# Altium footprint library PcbLib1.PcbLib: 6 footprints
Each footprint in its own frame and in the unit in brackets; x right, y up, seen from the top. Pads: shape width x height; smd on the part's side, far side on the other; paste and mask are expansions set on the pad; w line width, h text height; cw(c..) or ccw(c..) is an arc to the next point about the centre after c.
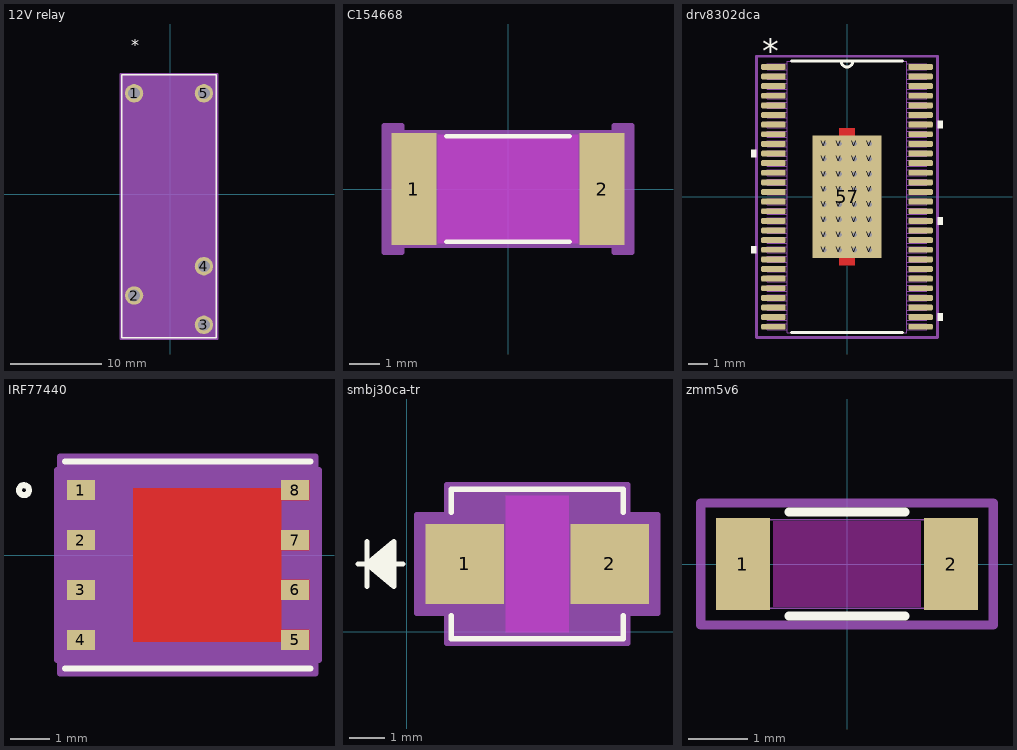
[diagram p0: the footprints below, top view; thin cyan lines are the x and y axes]

## 12V relay [mil]
pads (5):
  round 79 / inner round 60 / far side round 79 hole 51 paste-39.5 mask+0: 1(-155,435) 2(-155,-435.08) 3(145,-561.06) 4(145,-309.09) 5(145,435)
Top Overlay:
  lines w6: -209,-617.2 199,-617.2 199,514.8 -209,514.8 -209,-617.2
  text "*" at -167.5,618.6 h50
Mechanical 13:
  lines w0: -17,509.8 ccw(c-5,509.8) 7,509.8
  lines w1: -204,-612.2 194,-612.2 194,509.8 -204,509.8 -204,-612.2
  text "*" at -167.5,468.99 h50
Mechanical 15:
  region: 204,-622.2 -214,-622.2 -214,519.8 204,519.8
  region: 194,-612.2 -204,-612.2 -204,509.8 194,509.8
  lines w6: -214,-622.2 -214,519.8 204,519.8 204,-622.2 -214,-622.2
3D body "RELAY-SPDT_32mm.step": height 484.09, standoff 0, extent -204.02,-612.2 194.02,509.8

## C154668 [mil] "0.1ohm 2W sense %1"
pads (2):
  rect 59x146 smd paste+0 mask+0: 1(-123,0) 2(123,0)
Top Layer keep-out:
  region: -91.5,-71 -91.5,71 91.5,71 91.5,-71
Top Overlay:
  lines w6: -80.4,-69 80.4,-69 ; -80.4,69 80.4,69
Mechanical 13:
  lines w1: -128,-64 -128,64 128,64 128,-64 -128,-64
Mechanical 15:
  region: -138,-83 -162.5,-83 -162.5,83 -138,83 -138,74 138,74 138,83 162.5,83 162.5,-83 138,-83 138,-74 -138,-74
  lines w6: -162.5,-83 -138,-83 -138,-74 138,-74 138,-83 162.5,-83 162.5,83 138,83 138,74 -138,74 -138,83 -162.5,83 -162.5,-83
3D body "RES_2512LR_TTE.step": height 32.99, standoff 0, extent -127.99,-64.02 127.99,64.02

## drv8302dca [mil] "56pin motor sürücü,mosfet sürücü"
pads (89):
  rrect50% 50x12 smd: 1(-150.5,265.75) 2(-150.5,246.06) 3(-150.5,226.38) 4(-150.5,206.69) 5(-150.5,187.01) 6(-150.5,167.32) 7(-150.5,147.64) 8(-150.5,127.95) 9(-150.5,108.27) 10(-150.5,88.58) 11(-150.5,68.9) 12(-150.5,49.21) 13(-150.5,29.53) 14(-150.5,9.84) 15(-150.5,-9.84) 16(-150.5,-29.53) 17(-150.5,-49.21) 18(-150.5,-68.9) 19(-150.5,-88.58) 20(-150.5,-108.27) 21(-150.5,-127.95) 22(-150.5,-147.64) 23(-150.5,-167.32) 24(-150.5,-187.01) 25(-150.5,-206.69) 26(-150.5,-226.38) 27(-150.5,-246.06) 28(-150.5,-265.75) 29(150.5,-265.75) 30(150.5,-246.06) 31(150.5,-226.38) 32(150.5,-206.69) 33(150.5,-187.01) 34(150.5,-167.32) 35(150.5,-147.64) 36(150.5,-127.95) 37(150.5,-108.27) 38(150.5,-88.58) 39(150.5,-68.9) 40(150.5,-49.21) 41(150.5,-29.53) 42(150.5,-9.84) 43(150.5,9.84) 44(150.5,29.53) 45(150.5,49.21) 46(150.5,68.9) 47(150.5,88.58) 48(150.5,108.27) 49(150.5,127.95) 50(150.5,147.64) 51(150.5,167.32) 52(150.5,187.01) 53(150.5,206.69) 54(150.5,226.38) 55(150.5,246.06) 56(150.5,265.75)
  rect 142.13x250 smd: 57(0,0)
  round 20 / inner round 60 / far side round 20 hole 10: V(-46.5,-108.5) V(-46.5,-77.5) V(-46.5,-46.5) V(-46.5,-15.5) V(-46.5,15.5) V(-46.5,46.5) V(-46.5,77.5) V(-46.5,108.5) V(-15.5,-108.5) V(-15.5,-77.5) V(-15.5,-46.5) V(-15.5,-15.5) V(-15.5,15.5) V(-15.5,46.5) V(-15.5,77.5) V(-15.5,108.5) V(15.5,-108.5) V(15.5,-77.5) V(15.5,-46.5) V(15.5,-15.5) V(15.5,15.5) V(15.5,46.5) V(15.5,77.5) V(15.5,108.5) V(46.5,-108.5) V(46.5,-77.5) V(46.5,-46.5) V(46.5,-15.5) V(46.5,15.5) V(46.5,46.5) V(46.5,77.5) V(46.5,108.5)
Top Layer:
  region: 15.75,-125 -15.75,-125 -15.75,-139.96 15.75,-139.96 15.75,-125
  region: 15.75,125 -15.75,125 -15.75,139.96 15.75,139.96 15.75,125
Top Overlay:
  region: 185.5,155.14 195.5,155.14 195.5,140.14 185.5,140.14
  region: 185.5,-41.71 195.5,-41.71 195.5,-56.71 185.5,-56.71
  region: 185.5,-238.56 195.5,-238.56 195.5,-253.56 185.5,-253.56
  region: -185.5,-100.77 -195.5,-100.77 -195.5,-115.77 -185.5,-115.77
  region: -185.5,96.08 -195.5,96.08 -195.5,81.08 -185.5,81.08
  lines w6: -113.73,-277.5 113.73,-277.5 ; -113.73,277.5 113.73,277.5 ; -12,277.5 ccw(c0,277.5) 12,277.5
  text "*" at -173,272.75 h50
Top Paste:
  drawing of 45 lines, arcs and shapes, not listed
Top Solder:
  region: 54.37,-127.5 54.37,127.5 73.56,127.5 73.56,-127.5
  region: 38.63,-127.5 38.63,127.5 23.37,127.5 23.37,-127.5
  region: 7.63,-127.5 7.63,127.5 -7.63,127.5 -7.63,-127.5
  region: -23.37,-127.5 -23.37,127.5 -38.63,127.5 -38.63,-127.5
  region: -73.56,-127.5 -73.56,127.5 -54.37,127.5 -54.37,-127.5
  region: -73.56,-127.5 -73.56,-116.37 73.56,-116.37 73.56,-127.5
  region: -73.56,-100.63 -73.56,-85.37 73.56,-85.37 73.56,-100.63
  region: -73.56,-69.63 -73.56,-54.37 73.56,-54.37 73.56,-69.63
  region: -73.56,-38.63 -73.56,-23.37 73.56,-23.37 73.56,-38.63
  region: -73.56,-7.63 -73.56,7.63 73.56,7.63 73.56,-7.63
  region: -73.56,23.37 -73.56,38.63 73.56,38.63 73.56,23.37
  region: -73.56,54.37 -73.56,69.63 73.56,69.63 73.56,54.37
  region: -73.56,85.37 -73.56,100.63 73.56,100.63 73.56,85.37
  region: -73.56,116.37 -73.56,127.5 73.56,127.5 73.56,116.37
  region: 15.75,-125 -15.75,-125 -15.75,-139.96 15.75,-139.96 15.75,-125
  region: 15.75,125 -15.75,125 -15.75,139.96 15.75,139.96 15.75,125
Mechanical 13:
  drawing of 229 lines, arcs and shapes, not listed
  text "*" at -173,272.75 h50
Mechanical 15:
  lines w6: -185.5,-287.5 185.5,-287.5 185.5,287.5 -185.5,287.5 -185.5,-287.5
3D body "DCA56_6P35X3P61.step": height 67.09, standoff 0, extent -163.5,-277.48 163.5,277.48

## IRF77440 [mil]
pads (8):
  rect 28x20 smd paste-10 mask+0: 1(112.72,65) 2(112.72,15) 3(112.72,-35) 4(112.72,-85) 5(327.28,-85) 6(327.28,-35) 7(327.28,15) 8(327.28,65)
Top Layer:
  region: 220,67
  region: 220,-87
  region: 165.28,-87 165.28,67 313.28,67 313.28,75 341.28,75 341.28,55 313.28,55 313.28,25 341.28,25 341.28,5 313.28,5 313.28,-25 341.28,-25 341.28,-45 313.28,-45 313.28,-75 341.28,-75 341.28,-95 313.28,-95 313.28,-87
Top Overlay:
  circle w6: c55.72,65 r5
  lines w6: 97,-113.5 343,-113.5 ; 97,93.5 343,93.5
Top Paste:
  region: 216.06,63.06 149.94,63.06 149.94,19.6 216.06,19.6
  region: 216.06,11.73 149.94,11.73 149.94,-31.73 216.06,-31.73
  region: 216.06,-39.6 149.94,-39.6 149.94,-83.06 216.06,-83.06
  region: 290.06,63.06 223.94,63.06 223.94,19.6 290.06,19.6
  region: 290.06,11.73 223.94,11.73 223.94,-31.73 290.06,-31.73
  region: 290.06,-39.6 223.94,-39.6 223.94,-83.06 290.06,-83.06
  region: 165.28,-87 165.28,67 313.28,67 313.28,75 341.28,75 341.28,55 313.28,55 313.28,25 341.28,25 341.28,5 313.28,5 313.28,-25 341.28,-25 341.28,-45 313.28,-45 313.28,-75 341.28,-75 341.28,-95 313.28,-95 313.28,-87
Top Solder:
  region: 220,67
  region: 220,-87
  region: 165.28,-87 165.28,67 313.28,67 313.28,75 341.28,75 341.28,55 313.28,55 313.28,25 341.28,25 341.28,5 313.28,5 313.28,-25 341.28,-25 341.28,-45 313.28,-45 313.28,-75 341.28,-75 341.28,-95 313.28,-95 313.28,-87
Mechanical 13:
  circle w0: c126.72,65 r3
  lines w0: 208,88.5 ccw(c220,88.5) 232,88.5
  lines w1: 102,-108.5 338,-108.5 338,88.5 102,88.5 102,-108.5
Mechanical 15:
  region: 92,-105 88.72,-105 88.72,85 92,85 92,98.5 348,98.5 348,85 351.28,85 351.28,-105 348,-105 348,-118.5 92,-118.5
  lines w6: 88.72,-105 88.72,85 92,85 92,98.5 348,98.5 348,85 351.28,85 351.28,-105 348,-105 348,-118.5 92,-118.5 92,-105 88.72,-105

## smbj30ca-tr [mil]
pads (2):
  rect 87x89 smd paste+0 mask+0: 1(64.5,75) 2(225.5,75)
Top Layer keep-out:
  region: 110,-1 110,151 180,151 180,-1
Top Overlay:
  lines w6: -54,75 -4,75 ; -44,50 -44,100 ; -14,55 -44,75 ; -14,60 -44,75 ; -14,65 -44,75 ; -14,70 -44,75 ; -14,80 -44,75 ; -14,85 -44,75 ; -14,90 -44,75 ; -14,95 -44,75 ; 49.5,17.4 49.5,-8 240.5,-8 240.5,17.4 ; 49.5,132.6 49.5,158 240.5,158 240.5,132.6 ; -44,75 -14,50 -14,100 -44,75
Keep-Out Layer:
  region: 110,-1 110,151 180,151 180,-1
Mechanical 13:
  lines w1: -54,75 -4,75 ; -44,50 -44,100 ; -14,55 -44,75 ; -14,60 -44,75 ; -14,65 -44,75 ; -14,70 -44,75 ; -14,80 -44,75 ; -14,85 -44,75 ; -14,90 -44,75 ; -14,95 -44,75 ; 54.5,36 93.5,-3 ; 54.5,114 93.5,153 ; -44,75 -14,50 -14,100 -44,75 ; 35,31.5 54.5,31.5 54.5,118.5 35,118.5 35,31.5 ; 54.5,-3 54.5,153 235.5,153 235.5,-3 54.5,-3 ; 235.5,31.5 255,31.5 255,118.5 235.5,118.5 235.5,31.5
Mechanical 15:
  region: 44.5,20.5 11,20.5 11,129.5 44.5,129.5 44.5,163 245.5,163 245.5,129.5 279,129.5 279,20.5 245.5,20.5 245.5,-13 44.5,-13
  lines w6: 11,20.5 44.5,20.5 44.5,-13 245.5,-13 245.5,20.5 279,20.5 279,129.5 245.5,129.5 245.5,163 44.5,163 44.5,129.5 11,129.5 11,20.5
3D body "SMB_STM.step": height 104.09, standoff 0.07, extent 35,-2.99 255,152.99

## zmm5v6 [mil]
pads (2):
  rect 36x61 smd paste+0 mask+0: 1(-69,0) 2(69,0)
Top Layer keep-out:
  region: -49,-28.5 -49,28.5 49,28.5 49,-28.5
Top Overlay:
  lines w6: -38.53,-34.5 38.53,-34.5 ; -38.53,34.5 38.53,34.5
Mechanical 13:
  lines w1: -71,-14.75 -56.25,-29.5 ; -71,14.75 -56.25,29.5 ; -71,-29.5 -71,29.5 71,29.5 71,-29.5 -71,-29.5
Mechanical 15:
  lines w6: -97,-40.5 97,-40.5 97,40.5 -97,40.5 -97,-40.5
3D body "ZDO_ZMM_3p5x1p45_STM.step": height 58.99, standoff 0, extent -70.98,-29.28 70.98,29.28